# Altium footprint library DIP Coil.PcbLib: 3 footprints
Each footprint in its own frame and in the unit in brackets; x right, y up, seen from the top. Pads: shape width x height; smd on the part's side, far side on the other; paste and mask are expansions set on the pad; w line width, h text height; cw(c..) or ccw(c..) is an arc to the next point about the centre after c.
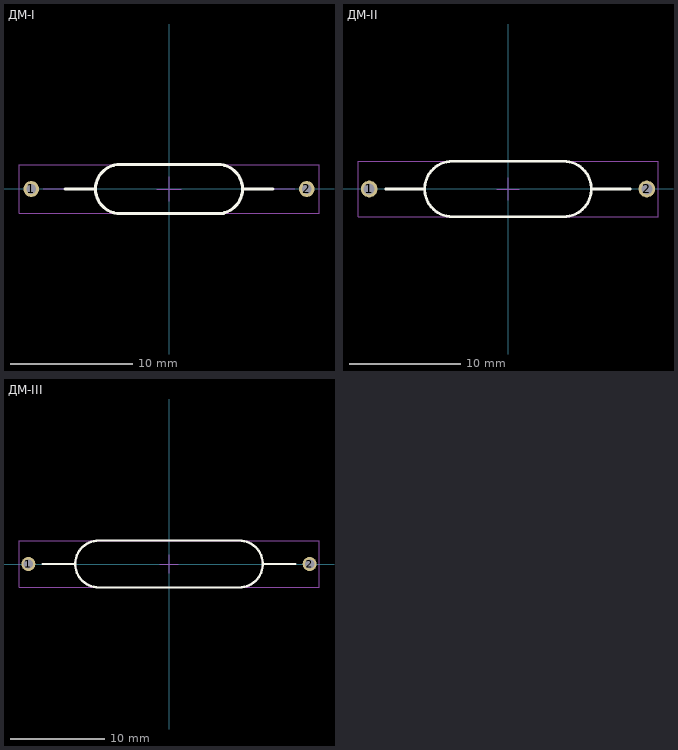
[diagram p0: the footprints below, top view; thin cyan lines are the x and y axes]

## ДМ-I [mm] "Типоразмер I в соответствии с КЦНС.671342.002 СБ"
pads (2):
  round 1.3 hole 0.8: 1(-11.25,0) 2(11.25,0)
Top Overlay:
  lines w0.25: -8.5,0 -6,0 ; 4,-2 ccw(c4,0) 4,2 -4,2 ccw(c-4,0) -4,-2 4.5,-2 ; 6,0 8.5,0
Mechanical 13:
  lines w0.1: -10.25,0 -6,0 ; 4,-2 ccw(c4,0) 4,2 -4,2 ccw(c-4,0) -4,-2 4.5,-2 ; 6,0 10.25,0
Mechanical 15:
  lines w0.1: -1,0 1,0 ; 0,-1 0,1 ; -12.25,-2 12.25,-2 12.25,2 -12.25,2 -12.25,-2
3D body: height 3.6, standoff 1.6, extent 4,-0.996 5.99,0.996
3D body: height 3.1, standoff 2.1, extent 5,-0.498 7.5,0.5
3D body: height 3.1, standoff 2.1, extent -7.5,-0.5 -5,0.498
3D body: height 3.6, standoff 1.6, extent -5.99,-0.996 -4,0.996
3D body: height 2.6, standoff -2, extent 10.952,-0.299 11.55,0.299
3D body: height 2.9, standoff 2.3, extent 10.95,-0.299 11.547,0.299
3D body: height 2.9, standoff 2.3, extent 6.25,-0.299 11.25,0.299
3D body: height 4.39, standoff 0.8, extent -5,-1.8 5,1.793
3D body: height 0.8, standoff 0, extent -4,-1.5 4,1.5
3D body: height 4.58, standoff 0.6, extent -3,-1.996 3,1.996
3D body: height 2.9, standoff 2.3, extent -11.25,-0.299 -6.25,0.299
3D body: height 2.9, standoff 2.3, extent -11.547,-0.299 -10.95,0.299
3D body: height 2.6, standoff -2, extent -11.55,-0.299 -10.952,0.299

## ДМ-II [mm] "Типоразмер II в соответствии с КЦНС.671342.003 СБ"
pads (2):
  round 1.5 hole 1: 1(-12.5,0) 2(12.5,0)
Top Overlay:
  lines w0.25: -11,0 -7.5,0 ; 5,-2.5 ccw(c5,0) 5,2.5 ; 5,-2.5 ccw(c5,0) 5,2.5 ; 5,-2.5 -5,-2.5 cw(c-5,0) -5,2.5 5,2.5 ; 7.5,0 11,0 7.5,0
Mechanical 13:
  lines w0.1: -11,0 -7.5,0 ; 5,-2.5 ccw(c5,0) 5,2.5 ; 5,-2.5 ccw(c5,0) 5,2.5 ; 5,-2.5 -5,-2.5 cw(c-5,0) -5,2.5 5,2.5 ; 7.5,0 11,0 7.5,0
Mechanical 15:
  lines w0.1: -1,0 1,0 ; 0,-1 0,1 ; -13.5,-2.5 13.5,-2.5 13.5,2.5 -13.5,2.5 -13.5,-2.5
3D body: height 3.79, standoff 2.2, extent -9.5,-0.798 -5.5,0.798
3D body: height 5, standoff 1, extent -7.5,-2 -3.521,1.983
3D body: height 3.4, standoff 2.6, extent -12.898,-0.397 -12.102,0.4
3D body: height 3, standoff -2, extent -12.899,-0.397 -12.101,0.4
3D body: height 3.4, standoff 2.6, extent -12.5,-0.399 -7.5,0.399
3D body: height 0.8, standoff 0, extent -5.5,-2 5.5,2
3D body: height 5.18, standoff 0.8, extent -6,-2.196 6,2.196
3D body: height 3.4, standoff 2.6, extent 7.5,-0.399 12.5,0.399
3D body: height 3, standoff -2, extent 12.101,-0.4 12.899,0.397
3D body: height 3.4, standoff 2.6, extent 12.102,-0.4 12.898,0.397
3D body: height 5, standoff 1, extent 3.521,-1.983 7.5,2
3D body: height 3.79, standoff 2.2, extent 5.5,-0.798 9.5,0.798

## ДМ-III [mm] "Типоразмер III в соответствии с КЦНС.671342.004 СБ"
pads (2):
  round 1.5 hole 1: 1(-15,0) 2(15,0)
Top Overlay:
  lines w0.25: -13.5,0 -10,0 ; 10,0 13.5,0 ; -7.5,-2.5 cw(c-7.5,0) -7.5,2.5 7.5,2.5 cw(c7.5,0) 7.5,-2.5 -7.5,-2.5
Mechanical 13:
  lines w0.1: -13.5,0 -10,0 ; 10,0 13.5,0 ; -7.5,-2.5 cw(c-7.5,0) -7.5,2.5 7.5,2.5 cw(c7.5,0) 7.5,-2.5 -7.5,-2.5
Mechanical 15:
  lines w0.1: -1,0 1,0 ; 0,-1 0,1 ; -16,-2.5 -16,2.5 16,2.5 16,-2.5 -16,-2.5